# Altium integrated library Analog Devices Data Converters Analog-to-Digital Converters.IntLib: 2404 symbols (part 47 of 346)
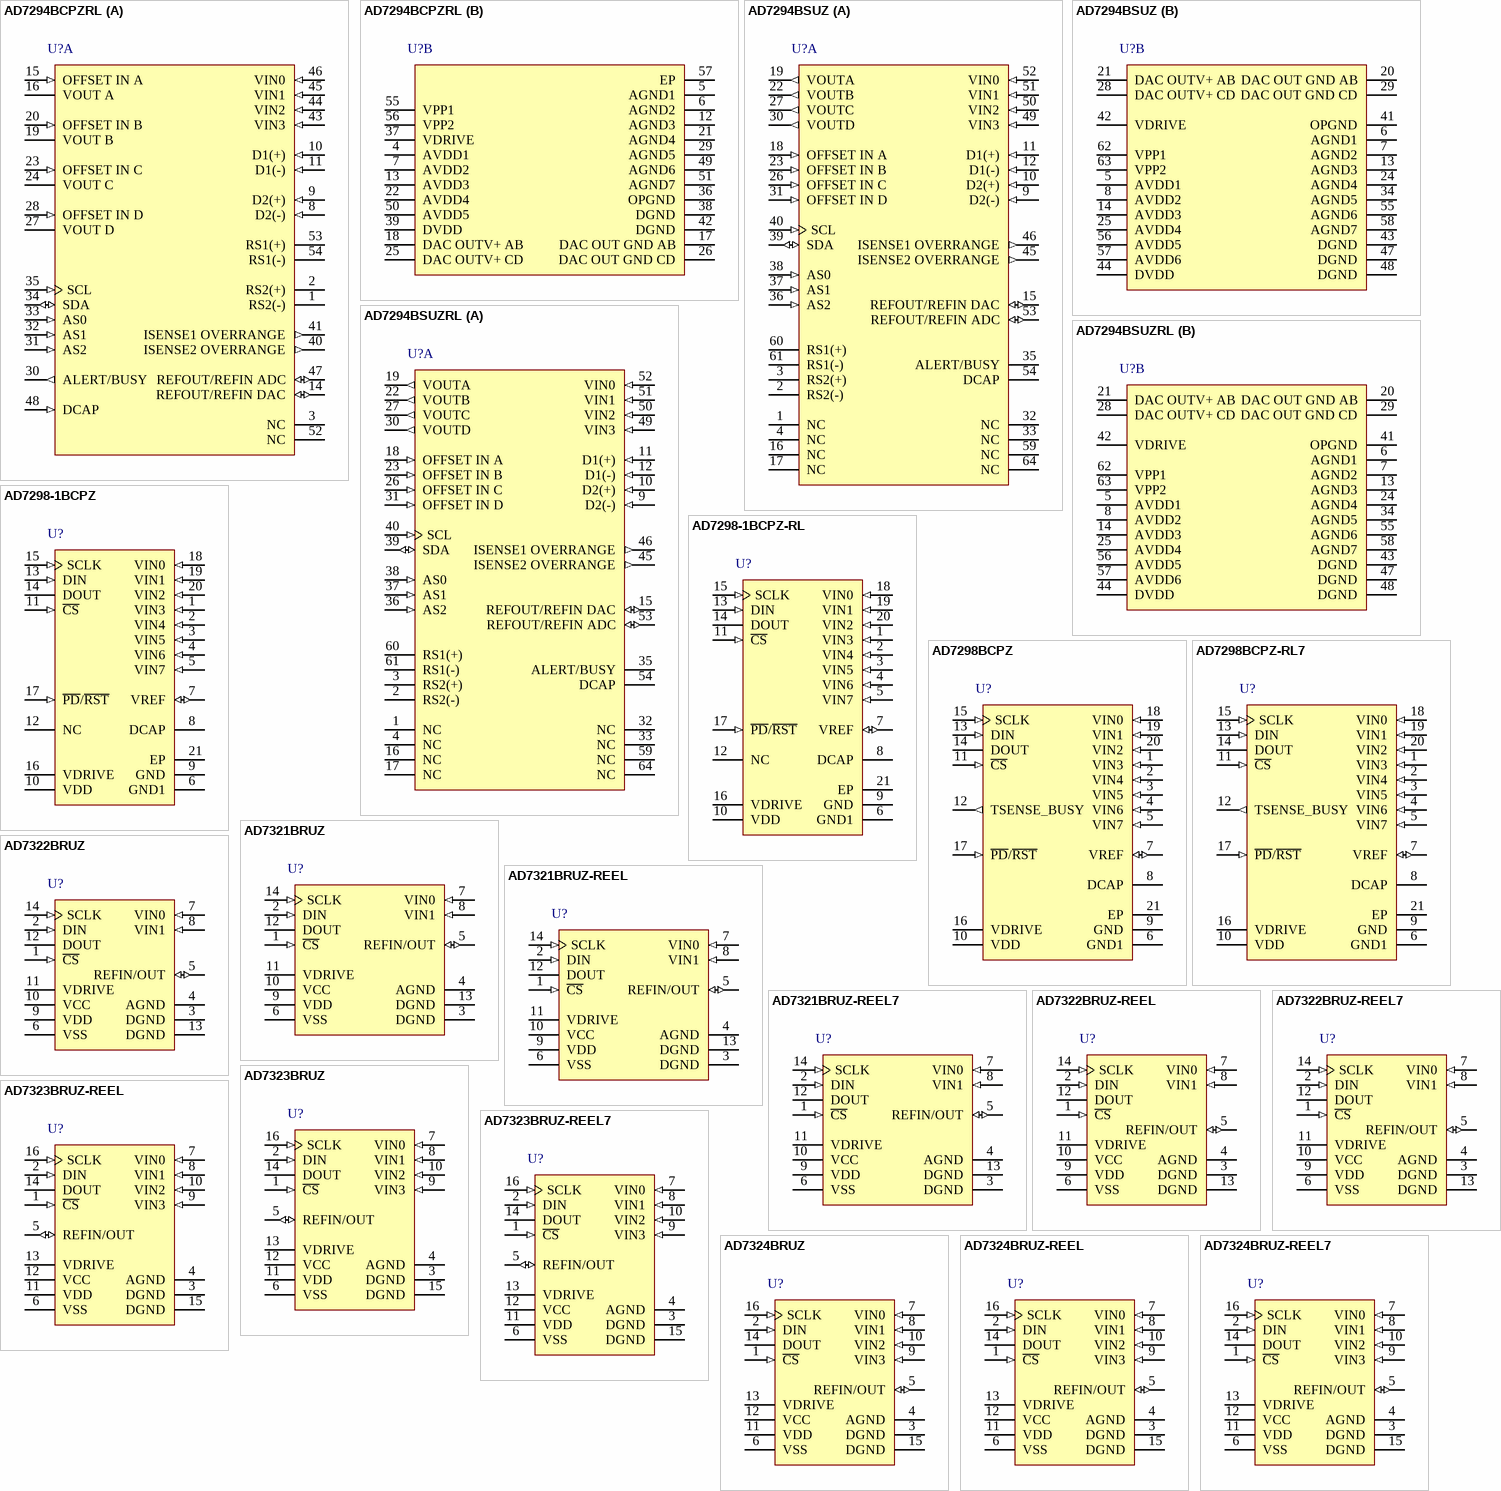
[diagram p281: symbols AD7294BCPZRL to AD7324BRUZ-REEL7]

## AD7298BCPZ-RL7
designator U?
8 Channel 12-Bit SAR Analog-to-Digital Converter with SPI Interface and Temperature Sensor 1MSPS, -40 to +125 degC, CP-20-8, Pb-Free, Reel; Generic Part Number: AD7298; Manufacturer: Analog Devices; PartNumber: AD7298BCPZ-RL7; Resolution (Bits): 12; Channels: 9; Throughput Rate (SPS): 1M; DatasheetVersion: Rev.B; PackageVersion: 020509-B; PackageReference: CP-20-8; PackageDescription: 20-Lead Lead Frame Chip Scale Package [LFCSP_WQ] 4 x 4 mm Body, Very Very Thin Quad; Supplier 1: Digi-Key; Supplier Part Number 1: AD7298BCPZ-RL7TR-ND; Supplier 2: Digi-Key; Supplier Part Number 2: AD7298BCPZ-RL7CT-ND; Supplier 3: Digi-Key; Supplier Part Number 3: AD7298BCPZ-RL7DKR-ND; Supplier 4: Mouser; Supplier Part Number 4: 584-AD7298BCPZ-R7; Interface: SPI; RoHS: Y; Packing: Reel; Mounting Technology: Surface Mount; Code_JEDEC: MO-220-WGGD; ComponentLink1Description: Manufacturer URL; ComponentLink1URL: http://www.analog.com/en/index.html; ComponentLink2Description: Datasheet; ComponentLink2URL: http://www.analog.com/static/imported-files/data_sheets/AD7298.pdf; ComponentLink3Description: Package Specification; ComponentLink3URL: http://www.analog.com/static/imported-files/packages/PKG_PDF/LFCSP(CP)/CP-20/CP_20_8.pdf; ComponentLink4Description: Product URL; ComponentLink4URL: http://www.analog.com/en/analog-to-digital-converters/ad-converters/ad7298/products/product.html
footprint CP-20-8_N (QFN, 20-Leads, Body 4x4mm, Pitch 0.5mm, Thermal Pad 2.6x2.6mm, IPC Medium Density)
footprint CP-20-8_L (QFN, 20-Leads, Body 4x4mm, Pitch 0.5mm, Thermal Pad 2.6x2.6mm, IPC High Density)
footprint CP-20-8_M (QFN, 20-Leads, Body 4x4mm, Pitch 0.5mm, Thermal Pad 2.6x2.6mm, IPC Low Density)
pins: 1 VIN3 (in) "Analog Inputs. The AD7298 has eight single-ended analog inputs that are multiplexed into the on-chip track-and-hold. Each input channel can accept analog inputs from 0 V to 2.5 V. Any unused input channels should be (See Datasheet)", 2 VIN4 (in) "Analog Inputs. The AD7298 has eight single-ended analog inputs that are multiplexed into the on-chip track-and-hold. Each input channel can accept analog inputs from 0 V to 2.5 V. Any unused input channels should be (See Datasheet)", 3 VIN5 (in) "Analog Inputs. The AD7298 has eight single-ended analog inputs that are multiplexed into the on-chip track-and-hold. Each input channel can accept analog inputs from 0 V to 2.5 V. Any unused input channels should be (See Datasheet)", 4 VIN6 (in) "Analog Inputs. The AD7298 has eight single-ended analog inputs that are multiplexed into the on-chip track-and-hold. Each input channel can accept analog inputs from 0 V to 2.5 V. Any unused input channels should be (See Datasheet)", 5 VIN7 (in) "Analog Inputs. The AD7298 has eight single-ended analog inputs that are multiplexed into the on-chip track-and-hold. Each input channel can accept analog inputs from 0 V to 2.5 V. Any unused input channels should be (See Datasheet)", 6 GND1 (power) "Ground. Ground reference point for the internal reference circuitry on the AD7298. The external reference signals and all analog input signals should be referred to this GND1 voltage. The GND1 pin should be connected to the (See Datasheet)", 7 VREF (io) "Internal Reference/External Reference Supply. The nominal internal reference voltage of 2.5 V appears at this pin. Provided the output is buffered, the on-chip reference can be taken from this pin and applied externally to (See Datasheet)", 8 DCAP "Decoupling Capacitor Pin. Decoupling capacitors (1 uF recommended) are connected to this pin to decouple the internal LDO.", 9 GND (power) "Ground. Ground reference point for all analog and digital circuitry on the AD7298. The GND pin should be connected to the ground plane of the system. All ground pins should ideally be at the same potential and must not be (See Datasheet)", 10 VDD (power) "Supply Voltage, 2.8 V to 3.6 V. This supply should be decoupled to GND with 10 uF and 100 nF decoupling capacitors.", 11 ~{CS} (in) "Chip Select, Active Low Logic Input. This pin is edge triggered on the falling edge of this input, the track-and-hold goes into hold mode, and a conversion is initiated. This input also frames the serial data transfer. When (See Datasheet)", 12 TSENSE_BUSY (out) "Busy Output. This pin transitions high when a temperature sensor conversion starts and remains high until the conversion completes.", 13 DIN (in) "Data In, Logic input. Data to be written to the AD7298 control register is provided on this input and is clocked into the register on the falling edge of SCLK.", 14 DOUT (hiz) "Serial Data Output. The conversion result from the AD7298 is provided on this output as a serial data stream. The bits are clocked out on the falling edge of the SCLK input. The data stream from the AD7298 consists of four (See Datasheet)", 15 SCLK (in) "Serial Clock, Logic Input. A serial clock input provides the SCLK for accessing the data from the AD7298.", 16 VDRIVE (power) "Logic Power Supply Input. The voltage supplied at this pin determines at the voltage at which the interface operates. This pin should be decoupled to GND. The voltage range on this pin is 1.65 V to 3.6 V and may be less than (See Datasheet)", 17 ~{PD}/~{RST} (in) "Power-Down Pin. This pin places the part into full power-down mode and enables power conservation when operation is not required. This pin can be used to reset the device by toggling the pin low for a minimum of 1 ns and a (See Datasheet)", 18 VIN0 (in) "Analog Inputs. The AD7298 has eight single-ended analog inputs that are multiplexed into the on-chip track-and-hold. Each input channel can accept analog inputs from 0 V to 2.5 V. Any unused input channels should be (See Datasheet)", 19 VIN1 (in) "Analog Inputs. The AD7298 has eight single-ended analog inputs that are multiplexed into the on-chip track-and-hold. Each input channel can accept analog inputs from 0 V to 2.5 V. Any unused input channels should be (See Datasheet)", 20 VIN2 (in) "Analog Inputs. The AD7298 has eight single-ended analog inputs that are multiplexed into the on-chip track-and-hold. Each input channel can accept analog inputs from 0 V to 2.5 V. Any unused input channels should be (See Datasheet)", 21 EP (power) "The exposed metal paddle on the bottom of the LFCSP package should be soldered to PCB ground for proper functionality and heat dissipation."

## AD7321BRUZ
designator U?
Dual 13-Bit True Bipolar Input Plus Sign Analog-to-Digital Converter with Serial, SPI Interface, Software-Selectable, 500KSPS, -40 to +85 degC, RU-14, Pb-Free, Tube; Generic Part Number: AD7321; Manufacturer: Analog Devices; PartNumber: AD7321BRUZ; Resolution (Bits): 13; Channels: 2; Throughput Rate (SPS): 500K; Interface: Ser, SPI; DatasheetVersion: Rev.A; PackageVersion: Aug-2002; PackageReference: RU-14; PackageDescription: 14-Lead Thin Shrink Small Outline Package [TSSOP]; Supplier 1: Digi-Key; Supplier Part Number 1: AD7321BRUZ-ND; Supplier 2: Newark; Supplier Part Number 2: 19M0856; Supplier 3: Mouser; Supplier Part Number 3: 584-AD7321BRUZ; RoHS: Y; Packing: Tube; Mounting Technology: Surface Mount; Code_JEDEC: MO-153-AB-1; ComponentLink1Description: Manufacturer URL; ComponentLink1URL: http://www.analog.com/en/index.html; ComponentLink2Description: Datasheet; ComponentLink2URL: http://www.analog.com/static/imported-files/data_sheets/AD7321.pdf; ComponentLink3Description: Package Specification; ComponentLink3URL: http://www.analog.com/static/imported-files/packages/36057385283879153717235186773RU14.pdf; ComponentLink4Description: Product URL; ComponentLink4URL: http://www.analog.com/en/analog-to-digital-converters/ad-converters/ad7321/products/product.html
footprint RU-14_N (TSOP, 14-Leads, Body 5x4.4mm, Pitch 0.65mm, IPC Medium Density)
footprint RU-14_L (TSOP, 14-Leads, Body 5x4.4mm, Pitch 0.65mm, IPC High Density)
footprint RU-14_M (TSOP, 14-Leads, Body 5x4.4mm, Pitch 0.65mm, IPC Low Density)
pins: 1 ~{CS} (in) "Chip Select. Active low logic input. This input provides the dual function of initiating conversions on the AD7321 and frames the serial data transfer.", 2 DIN (in) "Data In. Data to be written to the on-chip registers is provided on this input and is clocked into the register on the falling edge of SCLK (see the Registers section).", 3 DGND (power) "Digital Ground. Ground reference point for all digital circuitry on the AD7321. The DGND and AGND voltages ideally should be at the same potential and must not be more than 0.3 V apart, even on a transient basis.", 4 AGND (power) "Analog Ground. Ground reference point for all analog circuitry on the AD7321. All analog input signals and any external reference signal should be referred to this AGND voltage. The AGND and DGND voltages ideally should be (See Datasheet)", 5 REFIN/OUT (io) "Reference Input/Reference Output. The on-chip reference is available on this pin for external use to the AD7321. The nominal internal reference voltage is 2.5 V, which appears at this pin. A 680 nF capacitor should be placed (See Datasheet)", 6 VSS (power) "Negative Power Supply Voltage. This is the negative supply voltage for the analog input section.", 7 VIN0 (in) "Analog Input 0. The analog inputs are multiplexed into the on-chip track-and-hold. The analog input channel for conversion is selected by programming the Channel Address Bit ADD0 in the control register. The inputs are (See Datasheet)", 8 VIN1 (in) "Analog Input 1. The analog inputs are multiplexed into the on-chip track-and-hold. The analog input channel for conversion is selected by programming the Channel Address Bit ADD0 in the control register. The inputs are (See Datasheet)", 9 VDD (power) "Positive Power Supply Voltage. This is the positive supply voltage for the analog input section.", 10 VCC (power) "Analog Supply Voltage, 2.7 V to 5.25 V. This is the supply voltage for the ADC core on the AD7321. This supply should be decoupled to AGND.", 11 VDRIVE (power) "Logic Power Supply Input. The voltage supplied at this pin determines at what voltage the interface operates. This pin should be decoupled to DGND. The voltage at this pin may be different to that at VCC, but it should not (See Datasheet)", 12 DOUT (hiz) "Serial Data Output. The conversion output data is supplied to this pin as a serial data stream. The bits are clocked out on the falling edge of the SCLK input, and 16 SCLKs are required to access the data. The data stream (See Datasheet)", 13 DGND (power) "Digital Ground. Ground reference point for all digital circuitry on the AD7321. The DGND and AGND voltages ideally should be at the same potential and must not be more than 0.3 V apart, even on a transient basis.", 14 SCLK (in) "Serial Clock, Logic Input. A serial clock input provides the SCLK used for accessing the data from the AD7321. This clock is also used as the clock source for the conversion process."